# Altium footprint library SteLib.PcbLib: 2 footprints
Each footprint in its own frame and in the unit in brackets; x right, y up, seen from the top. Pads: shape width x height; smd on the part's side, far side on the other; paste and mask are expansions set on the pad; w line width, h text height; cw(c..) or ccw(c..) is an arc to the next point about the centre after c.
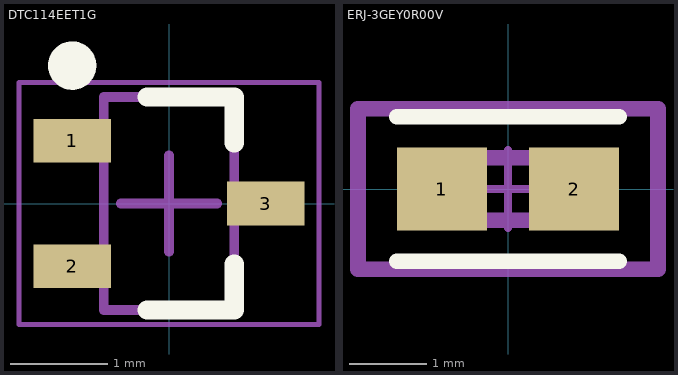
[diagram p0: the footprints below, top view; thin cyan lines are the x and y axes]

## DTC114EET1G [mm] "SOTFL, 3-Leads, Body 2.00x2.20mm, Pitch 0.65mm, IPC Medium Density"
height 0.8
pads (3):
  rect 0.8x0.45 smd: 1(-1,0.65) 2(-1,-0.65) 3(1,0)
Top Overlay:
  circle w0.25: c-1,1.425 r0.125
  lines w0.2: -0.225,-1.1 0.675,-1.1 0.675,-0.625 ; -0.225,1.1 0.675,1.1 0.675,0.625
Mechanical 13:
  lines w0.1: -0.675,-1.1 -0.675,1.1 0.675,1.1 0.675,-1.1 -0.675,-1.1
Mechanical 15:
  lines w0.05: -1.55,-1.25 -1.55,1.25 1.55,1.25 1.55,-1.25 -1.55,-1.25
  lines w0.1: -0.5,0 0.5,0 ; 0,-0.5 0,0.5
3D body: height 0.8, standoff 0, extent -0.675,-1.1 0.675,1.1

## ERJ-3GEY0R00V [mil]
pads (2):
  rect 45.53x41.82 smd paste+0 mask+0: 1(-33.5,0) 2(33.5,0)
Top Overlay:
  lines w7.87: -56.26,-36.66 56.26,-36.66 ; -56.26,36.66 56.26,36.66
Mechanical 5:
  lines w7.87: -75.95,-40.59 -75.95,40.59 75.95,40.59 75.95,-40.59 -75.95,-40.59
Mechanical 13:
  lines w7.87: -31.5,-15.75 -31.5,15.75 31.5,15.75 31.5,-15.75 -31.5,-15.75
Mechanical 15:
  lines w7.87: -75.95,-40.59 -75.95,40.59 75.95,40.59 75.95,-40.59 -75.95,-40.59
Mechanical 16:
  lines w3.94: -19.68,0 19.68,0 ; 0,-19.68 0,19.68
3D body "Res_Panasonic_ERJ-3GEY0R00V_eec.STEP": height 10, standoff 0, extent -75.95,-40.59 75.95,40.59